# Altium footprint library LED-3535.PcbLib: 1 footprints
Each footprint in its own frame and in the unit in brackets; x right, y up, seen from the top. Pads: shape width x height; smd on the part's side, far side on the other; paste and mask are expansions set on the pad; w line width, h text height; cw(c..) or ccw(c..) is an arc to the next point about the centre after c.
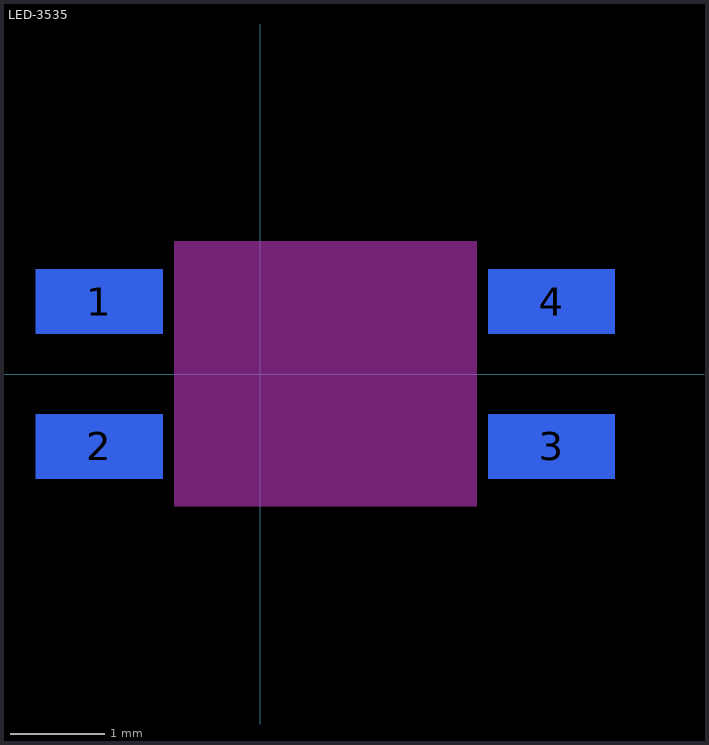
[diagram p0: the footprint, top view; thin cyan lines are the x and y axes]

## LED-3535 [mm]
pads (4):
  rect 1.34x0.68 smd far side: 1(-1.702,0.765) 2(-1.702,-0.765) 3(3.073,-0.765) 4(3.073,0.765)
Bottom Overlay:
  circle w0.18: c4.267,-0.914 r0.08
Keep-Out Layer:
  rectangle: -0.914,-1.397 2.286,1.403